# Altium schematic symbol library tps54360bdda.SchLib: 1 symbol
Pins are listed as number, name and electrical type; pins without a type are passive.

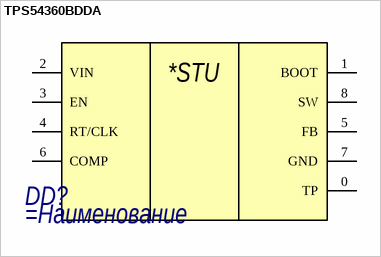
[diagram p0: symbol TPS54360BDDA]

## TPS54360BDDA
designator DD?
=Описание
pins: 0 TP, 1 BOOT, 2 VIN, 3 EN, 4 RT/CLK, 5 FB, 6 COMP, 7 GND, 8 SW
text: *STU